# EAGLE library part EP7312 (library cirrus-arm)
EP73xx.bsd edit this description Auto generated by make-symbol-device-package-bsdl.ulp Rev. 18 Source: EP73xx.bsd
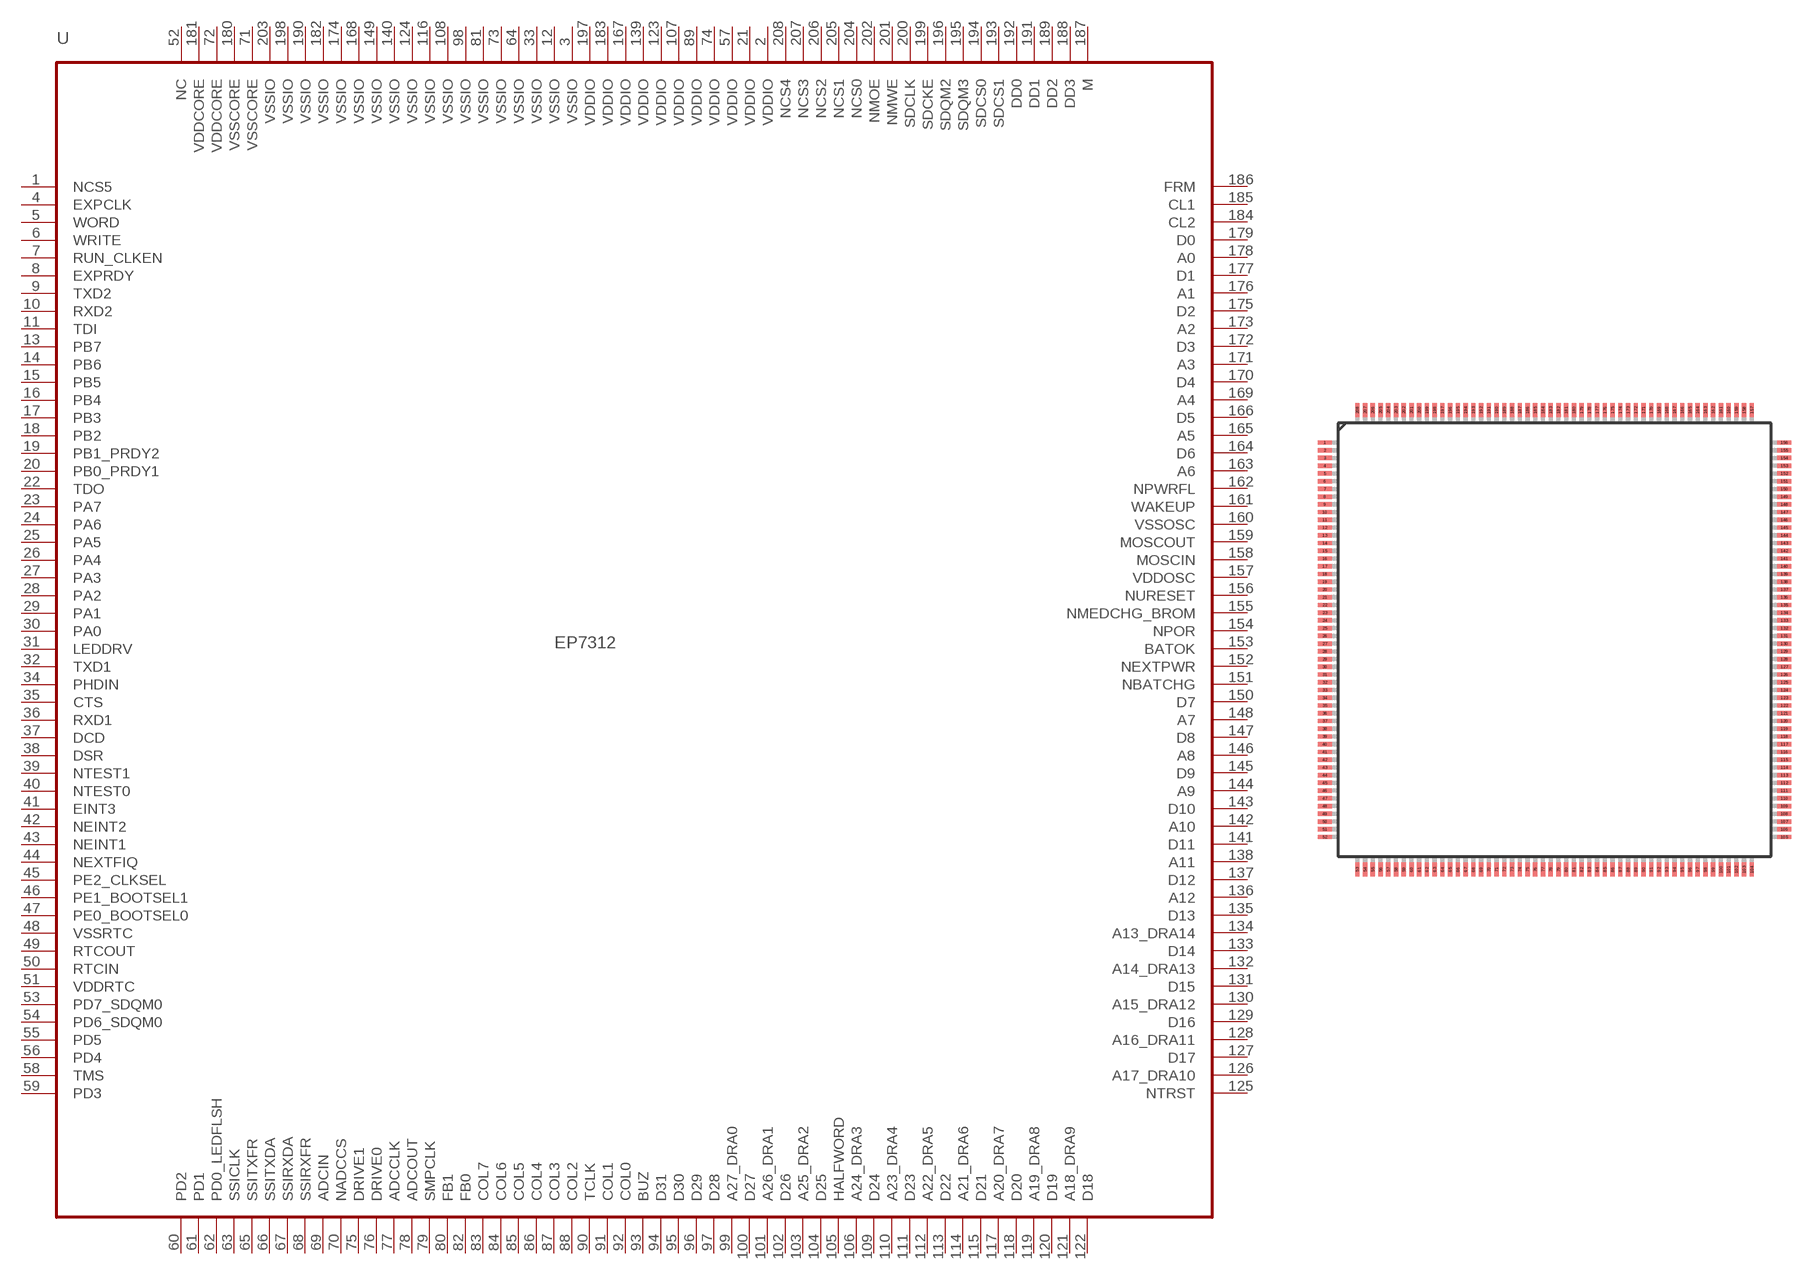
[diagram p2: symbol with the pads of LQFP208; footprint LQFP208]

Designator prefix U

## EP7312  [LQFP208]
1  NCS5  out
2  VDDIO  pwr
3  VSSIO  pwr
4  EXPCLK
5  WORD  out
6  WRITE  out
7  RUN_CLKEN
8  EXPRDY
9  TXD2  out
10  RXD2  in
11  TDI  in
12  VSSIO  pwr
13  PB7
14  PB6
15  PB5
16  PB4
17  PB3
18  PB2
19  PB1_PRDY2
20  PB0_PRDY1
21  VDDIO  pwr
22  TDO  out
23  PA7
24  PA6
25  PA5
26  PA4
27  PA3
28  PA2
29  PA1
30  PA0
31  LEDDRV  out
32  TXD1  out
33  VSSIO  pwr
34  PHDIN  in
35  CTS  in
36  RXD1  in
37  DCD  in
38  DSR  in
39  NTEST1  in
40  NTEST0  in
41  EINT3  in
42  NEINT2  in
43  NEINT1  in
44  NEXTFIQ  in
45  PE2_CLKSEL
46  PE1_BOOTSEL1
47  PE0_BOOTSEL0
48  VSSRTC  pwr
49  RTCOUT  out
50  RTCIN  in
51  VDDRTC  pwr
52  NC  pas
53  PD7_SDQM0
54  PD6_SDQM0
55  PD5
56  PD4
57  VDDIO  pwr
58  TMS  in
59  PD3
60  PD2
61  PD1
62  PD0_LEDFLSH
63  SSICLK
64  VSSIO  pwr
65  SSITXFR
66  SSITXDA  out
67  SSIRXDA  in
68  SSIRXFR
69  ADCIN  in
70  NADCCS  out
71  VSSCORE  pwr
72  VDDCORE  pwr
73  VSSIO  pwr
74  VDDIO  pwr
75  DRIVE1
76  DRIVE0
77  ADCCLK  out
78  ADCOUT  out
79  SMPCLK  out
80  FB1  in
81  VSSIO  pwr
82  FB0  in
83  COL7  out
84  COL6  out
85  COL5  out
86  COL4  out
87  COL3  out
88  COL2  out
89  VDDIO  pwr
90  TCLK  in
91  COL1  out
92  COL0  out
93  BUZ  out
94  D31
95  D30
96  D29
97  D28
98  VSSIO  pwr
99  A27_DRA0  out
100  D27
101  A26_DRA1  out
102  D26
103  A25_DRA2  out
104  D25
105  HALFWORD  out
106  A24_DRA3  out
107  VDDIO  pwr
108  VSSIO  pwr
109  D24
110  A23_DRA4  out
111  D23
112  A22_DRA5  out
113  D22
114  A21_DRA6  out
115  D21
116  VSSIO  pwr
117  A20_DRA7  out
118  D20
119  A19_DRA8  out
120  D19
121  A18_DRA9  out
122  D18
123  VDDIO  pwr
124  VSSIO  pwr
125  NTRST  in
126  A17_DRA10  out
127  D17
128  A16_DRA11  out
129  D16
130  A15_DRA12  out
131  D15
132  A14_DRA13  out
133  D14
134  A13_DRA14  out
135  D13
136  A12  out
137  D12
138  A11  out
139  VDDIO  pwr
140  VSSIO  pwr
141  D11
142  A10  out
143  D10
144  A9  out
145  D9
146  A8  out
147  D8
148  A7  out
149  VSSIO  pwr
150  D7
151  NBATCHG  in
152  NEXTPWR  in
153  BATOK  in
154  NPOR  in
155  NMEDCHG_BROM  in
156  NURESET  in
157  VDDOSC  pwr
158  MOSCIN  in
159  MOSCOUT  out
160  VSSOSC  pwr
161  WAKEUP  in
162  NPWRFL  in
163  A6  out
164  D6
165  A5  out
166  D5
167  VDDIO  pwr
168  VSSIO  pwr
169  A4  out
170  D4
171  A3  out
172  D3
173  A2  out
174  VSSIO  pwr
175  D2
176  A1  out
177  D1
178  A0  out
179  D0
180  VSSCORE  pwr
181  VDDCORE  pwr
182  VSSIO  pwr
183  VDDIO  pwr
184  CL2  out
185  CL1  out
186  FRM  out
187  M  out
188  DD3
189  DD2
190  VSSIO  pwr
191  DD1
192  DD0
193  SDCS1  out
194  SDCS0  out
195  SDQM3
196  SDQM2
197  VDDIO  pwr
198  VSSIO  pwr
199  SDCKE
200  SDCLK
201  NMWE  out
202  NMOE  out
203  VSSIO  pwr
204  NCS0  out
205  NCS1  out
206  NCS2  out
207  NCS3  out
208  NCS4  out

## Footprint LQFP208 (pad centres in mm)
TEST Auto generated by make-symbol-device-package-bsdl.ulp Rev. 18
smd 0.9 x 0.28: 1 -14.85,12.75; 2 -14.85,12.25; 3 -14.85,11.75; 4 -14.85,11.25; 5 -14.85,10.75; 6 -14.85,10.25; 7 -14.85,9.75; 8 -14.85,9.25; 9 -14.85,8.75; 10 -14.85,8.25; 11 -14.85,7.75; 12 -14.85,7.25; 13 -14.85,6.75; 14 -14.85,6.25; 15 -14.85,5.75; 16 -14.85,5.25; 17 -14.85,4.75; 18 -14.85,4.25; 19 -14.85,3.75; 20 -14.85,3.25; 21 -14.85,2.75; 22 -14.85,2.25; 23 -14.85,1.75; 24 -14.85,1.25; 25 -14.85,0.75; 26 -14.85,0.25; 27 -14.85,-0.25; 28 -14.85,-0.75; 29 -14.85,-1.25; 30 -14.85,-1.75; 31 -14.85,-2.25; 32 -14.85,-2.75; 33 -14.85,-3.25; 34 -14.85,-3.75; 35 -14.85,-4.25; 36 -14.85,-4.75; 37 -14.85,-5.25; 38 -14.85,-5.75; 39 -14.85,-6.25; 40 -14.85,-6.75; 41 -14.85,-7.25; 42 -14.85,-7.75; 43 -14.85,-8.25; 44 -14.85,-8.75; 45 -14.85,-9.25; 46 -14.85,-9.75; 47 -14.85,-10.25; 48 -14.85,-10.75; 49 -14.85,-11.25; 50 -14.85,-11.75; 51 -14.85,-12.25; 52 -14.85,-12.75; 105 14.85,-12.75; 106 14.85,-12.25; 107 14.85,-11.75; 108 14.85,-11.25; 109 14.85,-10.75; 110 14.85,-10.25; 111 14.85,-9.75; 112 14.85,-9.25; 113 14.85,-8.75; 114 14.85,-8.25; 115 14.85,-7.75; 116 14.85,-7.25; 117 14.85,-6.75; 118 14.85,-6.25; 119 14.85,-5.75; 120 14.85,-5.25; 121 14.85,-4.75; 122 14.85,-4.25; 123 14.85,-3.75; 124 14.85,-3.25; 125 14.85,-2.75; 126 14.85,-2.25; 127 14.85,-1.75; 128 14.85,-1.25; 129 14.85,-0.75; 130 14.85,-0.25; 131 14.85,0.25; 132 14.85,0.75; 133 14.85,1.25; 134 14.85,1.75; 135 14.85,2.25; 136 14.85,2.75; 137 14.85,3.25; 138 14.85,3.75; 139 14.85,4.25; 140 14.85,4.75; 141 14.85,5.25; 142 14.85,5.75; 143 14.85,6.25; 144 14.85,6.75; 145 14.85,7.25; 146 14.85,7.75; 147 14.85,8.25; 148 14.85,8.75; 149 14.85,9.25; 150 14.85,9.75; 151 14.85,10.25; 152 14.85,10.75; 153 14.85,11.25; 154 14.85,11.75; 155 14.85,12.25; 156 14.85,12.75
smd 0.28 x 0.9: 53 -12.75,-14.85; 54 -12.25,-14.85; 55 -11.75,-14.85; 56 -11.25,-14.85; 57 -10.75,-14.85; 58 -10.25,-14.85; 59 -9.75,-14.85; 60 -9.25,-14.85; 61 -8.75,-14.85; 62 -8.25,-14.85; 63 -7.75,-14.85; 64 -7.25,-14.85; 65 -6.75,-14.85; 66 -6.25,-14.85; 67 -5.75,-14.85; 68 -5.25,-14.85; 69 -4.75,-14.85; 70 -4.25,-14.85; 71 -3.75,-14.85; 72 -3.25,-14.85; 73 -2.75,-14.85; 74 -2.25,-14.85; 75 -1.75,-14.85; 76 -1.25,-14.85; 77 -0.75,-14.85; 78 -0.25,-14.85; 79 0.25,-14.85; 80 0.75,-14.85; 81 1.25,-14.85; 82 1.75,-14.85; 83 2.25,-14.85; 84 2.75,-14.85; 85 3.25,-14.85; 86 3.75,-14.85; 87 4.25,-14.85; 88 4.75,-14.85; 89 5.25,-14.85; 90 5.75,-14.85; 91 6.25,-14.85; 92 6.75,-14.85; 93 7.25,-14.85; 94 7.75,-14.85; 95 8.25,-14.85; 96 8.75,-14.85; 97 9.25,-14.85; 98 9.75,-14.85; 99 10.25,-14.85; 100 10.75,-14.85; 101 11.25,-14.85; 102 11.75,-14.85; 103 12.25,-14.85; 104 12.75,-14.85; 157 12.75,14.85; 158 12.25,14.85; 159 11.75,14.85; 160 11.25,14.85; 161 10.75,14.85; 162 10.25,14.85; 163 9.75,14.85; 164 9.25,14.85; 165 8.75,14.85; 166 8.25,14.85; 167 7.75,14.85; 168 7.25,14.85; 169 6.75,14.85; 170 6.25,14.85; 171 5.75,14.85; 172 5.25,14.85; 173 4.75,14.85; 174 4.25,14.85; 175 3.75,14.85; 176 3.25,14.85; 177 2.75,14.85; 178 2.25,14.85; 179 1.75,14.85; 180 1.25,14.85; 181 0.75,14.85; 182 0.25,14.85; 183 -0.25,14.85; 184 -0.75,14.85; 185 -1.25,14.85; 186 -1.75,14.85; 187 -2.25,14.85; 188 -2.75,14.85; 189 -3.25,14.85; 190 -3.75,14.85; 191 -4.25,14.85; 192 -4.75,14.85; 193 -5.25,14.85; 194 -5.75,14.85; 195 -6.25,14.85; 196 -6.75,14.85; 197 -7.25,14.85; 198 -7.75,14.85; 199 -8.25,14.85; 200 -8.75,14.85; 201 -9.25,14.85; 202 -9.75,14.85; 203 -10.25,14.85; 204 -10.75,14.85; 205 -11.25,14.85; 206 -11.75,14.85; 207 -12.25,14.85; 208 -12.75,14.85